# EAGLE library part LM2665 (library misc)
Charge Pump Switching Regulator IC Positive Fixed 2Vin, Vin/2 1 Output 40mA SOT-23-6
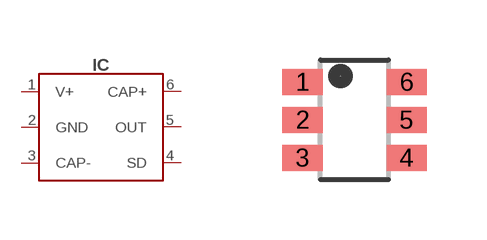
[diagram p51: symbol with the pads of SOT23-6; footprint SOT23-6]

Designator prefix IC

## LM2665 (DIGIKEY#: LM2665M6/NOPBCT-ND; MANF: Texas Instruments; MANF#: LM2665M6/NOPB)  [SOT23-6]
1  V+
2  GND
3  CAP-
4  SD
5  OUT
6  CAP+

## Footprint SOT23-6 (pad centres in mm)
smd 1 x 0.65: 1 -1.3,0.95; 2 -1.3,0; 3 -1.3,-0.95; 4 1.3,-0.95; 5 1.3,0; 6 1.3,0.95